# Altium footprint library ZJUNlict_footprint.PcbLib: 113 footprints (part 6 of 8)
Each footprint in its own frame and in the unit in brackets; x right, y up, seen from the top. Pads: shape width x height; smd on the part's side, far side on the other; paste and mask are expansions set on the pad; w line width, h text height; cw(c..) or ccw(c..) is an arc to the next point about the centre after c.
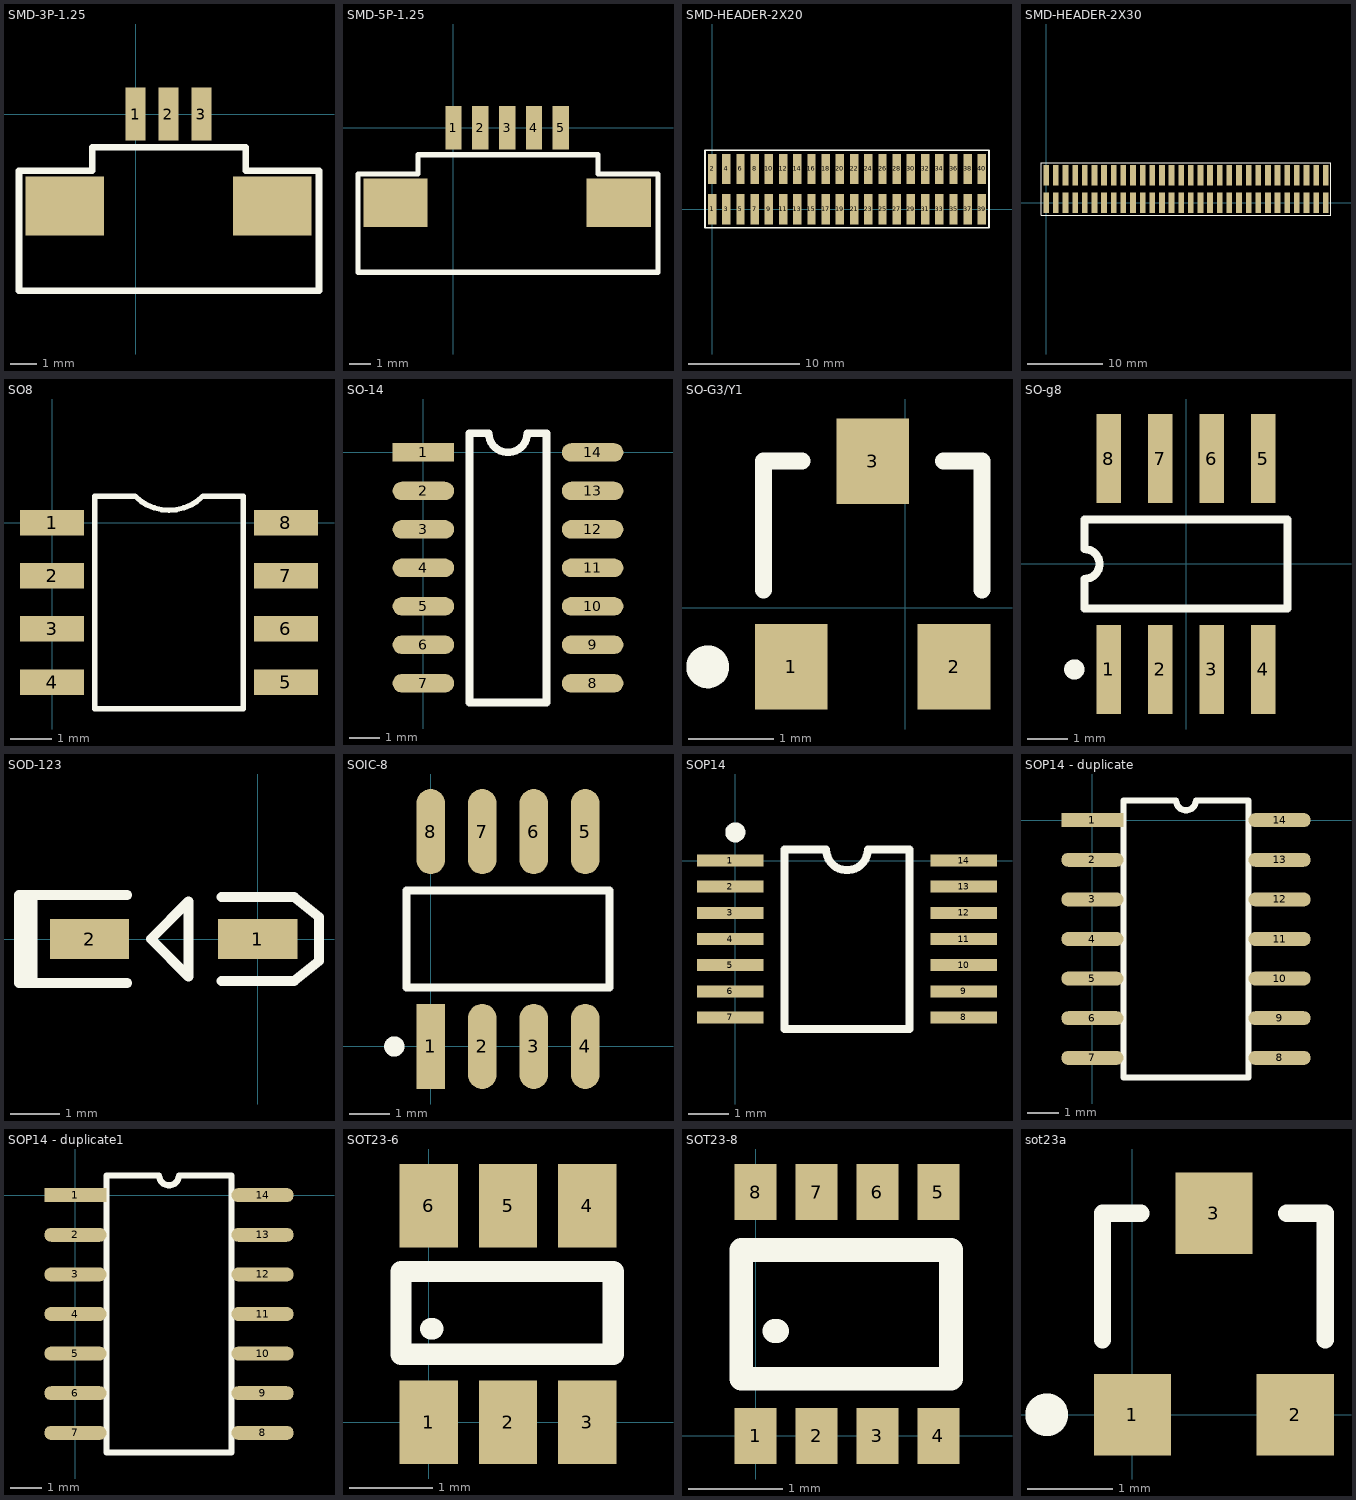
[diagram p5: the footprints below, top view; thin cyan lines are the x and y axes]

## SMD-3P-1.25 [mm]
height 1.45
pads (5):
  rect 0.762x2.032 smd: 1(0,0) 2(1.25,0) 3(2.5,0)
  rect 3x2.25 smd: ""(-2.7,-3.5) ""(5.2,-3.5)
Top Overlay:
  lines w0.254: -4.445,-6.731 6.985,-6.731 6.985,-2.159 4.191,-2.159 4.191,-1.27 -1.651,-1.27 -1.651,-2.159 -4.445,-2.159 -4.445,-6.731

## SMD-5P-1.25 [mm]
height 1.45
pads (7):
  rect 0.762x2.032 smd: 1(0,0) 2(1.25,0) 3(2.5,0) 4(3.75,0) 5(5,0)
  rect 3x2.25 smd: ""(-2.7,-3.5) ""(7.7,-3.5)
Top Overlay:
  lines w0.254: -4.445,-6.731 -4.445,-2.159 -1.651,-2.159 -1.651,-1.27 6.731,-1.27 6.731,-2.159 9.525,-2.159 9.525,-6.731 -4.445,-6.731

## SMD-HEADER-2X20 [mm]
height 6.35
pads (40):
  rect 0.75x2.7 smd: 1(0,0) 2(0,3.6) 3(1.27,0) 4(1.27,3.6) 5(2.54,0) 6(2.54,3.6) 7(3.81,0) 8(3.81,3.6) 9(5.08,0) 10(5.08,3.6) 11(6.35,0) 12(6.35,3.6) 13(7.62,0) 14(7.62,3.6) 15(8.89,0) 16(8.89,3.6) 17(10.16,0) 18(10.16,3.6) 19(11.43,0) 20(11.43,3.6) 21(12.7,0) 22(12.7,3.6) 23(13.97,0) 24(13.97,3.6) 25(15.24,0) 26(15.24,3.6) 27(16.51,0) 28(16.51,3.6) 29(17.78,0) 30(17.78,3.6) 31(19.05,0) 32(19.05,3.6) 33(20.32,0) 34(20.32,3.6) 35(21.59,0) 36(21.59,3.6) 37(22.86,0) 38(22.86,3.6) 39(24.13,0) 40(24.13,3.6)
Top Overlay:
  lines w0.152: -0.635,-1.651 24.765,-1.651 24.765,5.258 -0.635,5.258 -0.635,-1.651

## SMD-HEADER-2X30 [mm]
height 6.35
pads (60):
  rect 0.75x2.7 smd: 1(0,0) 2(0,3.6) 3(1.27,0) 4(1.27,3.6) 5(2.54,0) 6(2.54,3.6) 7(3.81,0) 8(3.81,3.6) 9(5.08,0) 10(5.08,3.6) 11(6.35,0) 12(6.35,3.6) 13(7.62,0) 14(7.62,3.6) 15(8.89,0) 16(8.89,3.6) 17(10.16,0) 18(10.16,3.6) 19(11.43,0) 20(11.43,3.6) 21(12.7,0) 22(12.7,3.6) 23(13.97,0) 24(13.97,3.6) 25(15.24,0) 26(15.24,3.6) 27(16.51,0) 28(16.51,3.6) 29(17.78,0) 30(17.78,3.6) 31(19.05,0) 32(19.05,3.6) 33(20.32,0) 34(20.32,3.6) 35(21.59,0) 36(21.59,3.6) 37(22.86,0) 38(22.86,3.6) 39(24.13,0) 40(24.13,3.6) 41(25.4,0) 42(25.4,3.6) 43(26.67,0) 44(26.67,3.6) 45(27.94,0) 46(27.94,3.6) 47(29.21,0) 48(29.21,3.6) 49(30.48,0) 50(30.48,3.6) 51(31.75,0) 52(31.75,3.6) 53(33.02,0) 54(33.02,3.6) 55(34.29,0) 56(34.29,3.6) 57(35.56,0) 58(35.56,3.6) 59(36.83,0) 60(36.83,3.6)
Top Overlay:
  lines w0.152: -0.635,-1.651 37.465,-1.651 37.465,5.258 -0.635,5.258 -0.635,-1.651

## SO8 [mil]
height 179.92
pads (8):
  rect 60x24 smd: 1(0,0) 2(0,-50) 3(0,-100) 4(0,-150) 5(220,-150) 6(220,-100) 7(220,-50) 8(220,0)
Top Overlay:
  lines w5: 40,-175 180,-175 180,25 142,25 cw(c110,57) 78,25 40,25 40,-175

## SO-14 [mil]
height 250
pads (14):
  rect 80x24 smd: 1(0,0)
  oval 80x24 smd: 2(0,-50) 3(0,-100) 4(0,-150) 5(0,-200) 6(0,-250) 7(0,-300) 8(220,-300) 9(220,-250) 10(220,-200) 11(220,-150) 12(220,-100) 13(220,-50) 14(220,0)
Top Overlay:
  lines w10: 60,-325 160,-325 160,25 135,25 cw(c110,25) 85,25 60,25 60,-325

## SO-G3/Y1 [mm]
height 1.2
pads (3):
  rect 0.85x1 smd: 1(-1.331,-0.692) 2(0.569,-0.692) 3(-0.381,1.708)
Top Overlay:
  circle w0.25: c-2.306,-0.692 r0.125
  lines w0.2: -1.656,0.208 -1.656,1.708 -1.206,1.708 ; 0.444,1.708 0.894,1.708 0.894,0.208

## SO-g8 [mm]
height 1.45
pads (8):
  rect 0.6x2.2 smd: 1(-1.905,-2.6) 2(-0.635,-2.6) 3(0.635,-2.6) 4(1.905,-2.6) 5(1.905,2.6) 6(0.635,2.6) 7(-0.635,2.6) 8(-1.905,2.6)
Top Overlay:
  circle w0.25: c-2.755,-2.6 r0.125
  lines w0.2: -2.5,-1.1 2.5,-1.1 2.5,1.1 -2.5,1.1 -2.5,0.367 cw(c-2.5,0) -2.5,-0.367 -2.5,-1.1

## SOD-123 [mm]
pads (2):
  rect 1.6x0.8 smd: 1(0,0) 2(-3.4,0)
Top Overlay:
  lines w0.2: -4.67,-0.889 -4.67,0.801 ; -4.55,-0.85 -4.55,0.85 ; -2.638,-0.889 -4.826,-0.889 -4.826,0.889 -2.638,0.889 ; -0.733,-0.845 0.737,-0.845 1.237,-0.445 1.237,0.445 0.737,0.845 -0.733,0.845 ; -2.159,0 -1.397,0.762 -1.397,-0.762 -2.159,0

## SOIC-8 [mm]
pads (8):
  rect 0.7x2.1 smd: 1(0,0)
  oval 0.7x2.1 smd: 2(1.27,0) 3(2.54,0) 4(3.81,0) 5(3.81,5.3) 6(2.54,5.3) 7(1.27,5.3) 8(0,5.3)
Top Overlay:
  circle w0.25: c-0.9,0 r0.125
  lines w0.2: -0.595,1.45 -0.595,3.85 4.405,3.85 4.405,1.45 -0.595,1.45

## SOP14 [mm]
height 0.254
pads (14):
  rect 1.65x0.3 smd: 1(-0.127,0) 2(-0.127,-0.65) 3(-0.127,-1.3) 4(-0.127,-1.95) 5(-0.127,-2.6) 6(-0.127,-3.25) 7(-0.127,-3.9) 8(5.677,-3.9) 9(5.677,-3.25) 10(5.677,-2.6) 11(5.677,-1.95) 12(5.677,-1.3) 13(5.677,-0.65) 14(5.677,0)
Top Overlay:
  circle w0.25: c0,0.7 r0.125
  lines w0.2: 1.225,-4.191 4.325,-4.191 4.325,0.275 3.292,0.275 cw(c2.775,0.275) 2.258,0.275 1.225,0.275 1.225,-4.191

## SOP14 - duplicate [mm]
pads (14):
  rect 2x0.45 smd: 1(0,0)
  oval 2x0.45 smd: 2(0,-1.27) 3(0,-2.54) 4(0,-3.81) 5(0,-5.08) 6(0,-6.35) 7(0,-7.62) 8(6,-7.62) 9(6,-6.35) 10(6,-5.08) 11(6,-3.81) 12(6,-2.54) 13(6,-1.27) 14(6,0)
Top Overlay:
  lines w0.2: 1,-8.255 5,-8.255 5,0.635 3.317,0.635 cw(c3,0.635) 2.682,0.635 1,0.635 1,-8.255

## SOP14 - duplicate1 [mm]
pads (14):
  rect 2x0.45 smd: 1(0,0)
  oval 2x0.45 smd: 2(0,-1.27) 3(0,-2.54) 4(0,-3.81) 5(0,-5.08) 6(0,-6.35) 7(0,-7.62) 8(6,-7.62) 9(6,-6.35) 10(6,-5.08) 11(6,-3.81) 12(6,-2.54) 13(6,-1.27) 14(6,0)
Top Overlay:
  lines w0.2: 1,-8.255 5,-8.255 5,0.635 3.317,0.635 cw(c3,0.635) 2.682,0.635 1,0.635 1,-8.255

## SOT23-6 [mm]
pads (6):
  rect 0.7x1 smd: 1(0,0) 2(0.95,0) 3(1.9,0) 4(1.9,2.59) 5(0.95,2.59) 6(0,2.59)
Top Overlay:
  lines w0.254: 0.025,1.118 0.051,1.118 ; -0.33,0.813 2.21,0.813 2.21,1.803 -0.33,1.803 -0.33,0.813

## SOT23-8 [mm]
pads (8):
  rect 0.45x0.6 smd: 1(0,0) 2(0.65,0) 3(1.3,0) 4(1.95,0) 5(1.95,2.6) 6(1.3,2.6) 7(0.65,2.6) 8(0,2.6)
Top Overlay:
  lines w0.254: 0.203,1.118 0.229,1.118 ; -0.152,0.61 2.083,0.61 2.083,1.981 -0.152,1.981 -0.152,0.61

## sot23a [mm]
pads (3):
  rect 0.9x0.95 smd: 1(0,0) 2(1.9,0) 3(0.95,2.35)
Top Overlay:
  circle w0.25: c-1,0 r0.125
  lines w0.2: -0.35,0.875 -0.35,2.35 0.1,2.35 ; 1.8,2.35 2.25,2.35 2.25,0.875